# Altium footprint library PcbLib1.PcbLib: 42 footprints (part 3 of 3)
Each footprint in its own frame and in the unit in brackets; x right, y up, seen from the top. Pads: shape width x height; smd on the part's side, far side on the other; paste and mask are expansions set on the pad; w line width, h text height; cw(c..) or ccw(c..) is an arc to the next point about the centre after c.
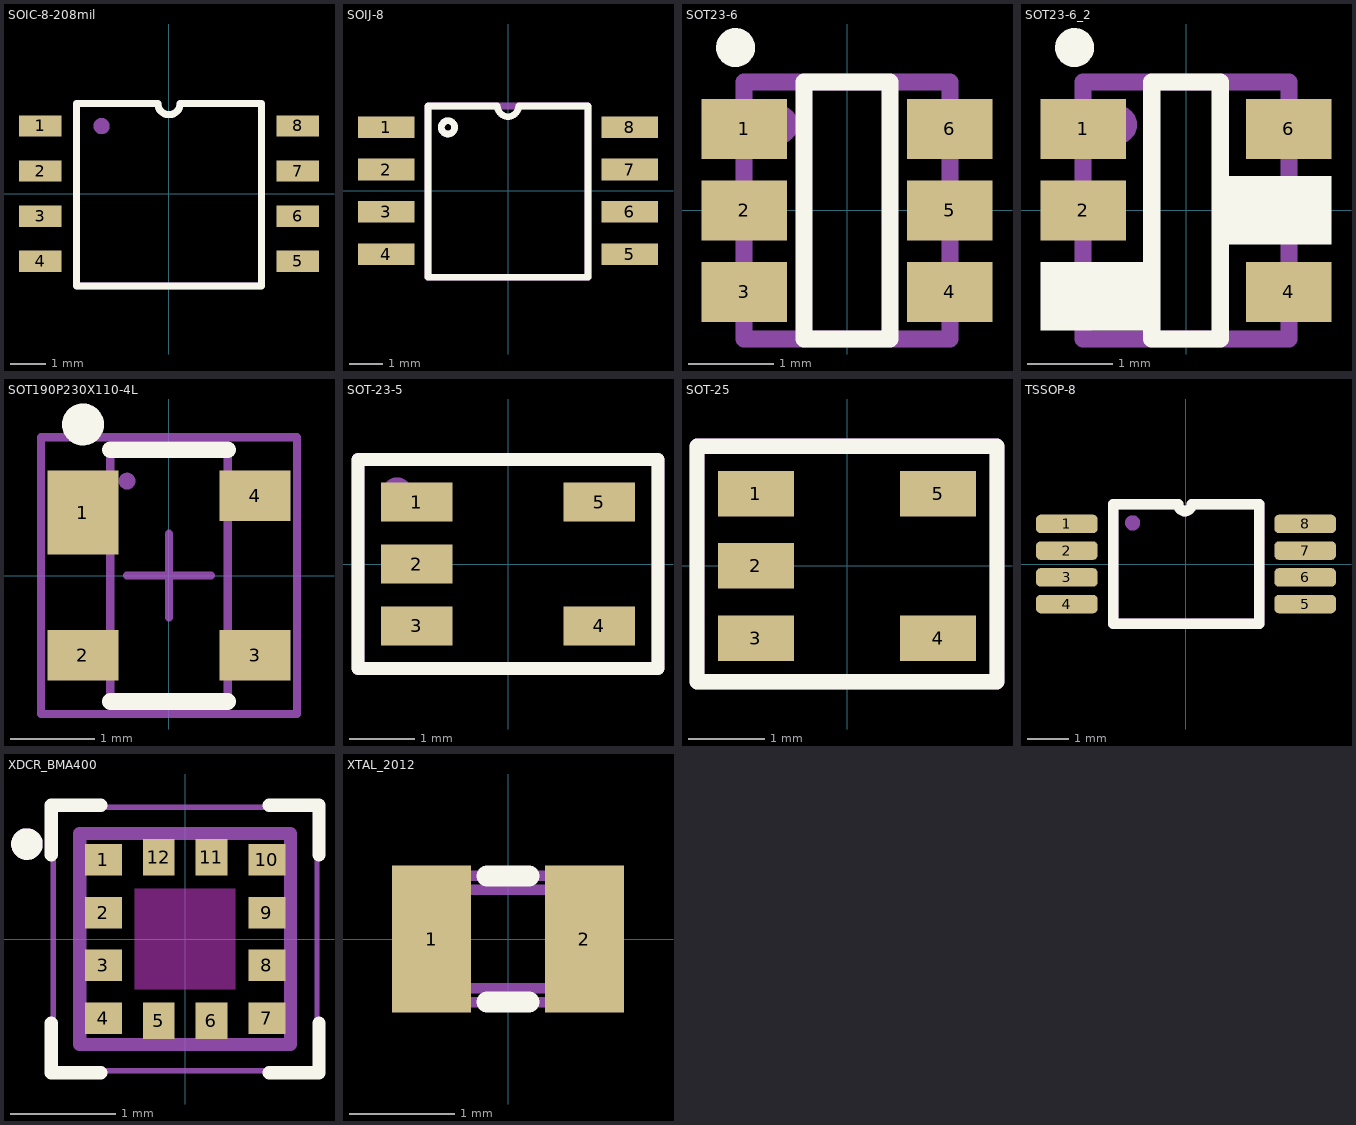
[diagram p2: the footprints below, top view; thin cyan lines are the x and y axes]

## SOIC-8-208mil [mm]
pads (8):
  rect 1.2x0.6 smd: 1(-3.625,1.905) 2(-3.625,0.635) 3(-3.625,-0.635) 4(-3.625,-1.905) 5(3.625,-1.905) 6(3.625,-0.635) 7(3.625,0.635) 8(3.625,1.905)
Top Overlay:
  lines w0.2: -2.6,-2.6 -2.6,2.54 -0.318,2.54 ccw(c0,2.54) 0.318,2.54 2.6,2.54 2.6,-2.6 -2.6,-2.6
Mechanical 29:
  circle w0.254: c-1.9,1.9 r0.1
  lines w0.2: -2.6,-2.6 -2.6,2.54 -0.318,2.54 ccw(c0,2.54) 0.318,2.54 2.6,2.54 2.6,-2.6 -2.6,-2.6
  text ".Designaror" at -0.9,-0.333 h0.8
3D body "MY SOIC 8.STEP": height 1.95, standoff 0, extent -3.912,-2.642 3.988,2.638

## SOIJ-8 [mm]
pads (8):
  rect 1.7x0.65 smd: 1(-3.65,1.905) 2(-3.65,0.635) 3(-3.65,-0.635) 4(-3.65,-1.905) 5(3.65,-1.905) 6(3.65,-0.635) 7(3.65,0.635) 8(3.65,1.905)
Top Overlay:
  circle w0.2: c-1.8,1.9 r0.2
  lines w0.2: -2.4,-2.6 -2.4,2.54 -0.318,2.54 ccw(c0,2.54) 0.318,2.54 2.4,2.54 2.4,-2.6 -2.4,-2.6
Mechanical 29:
  circle w0.2: c-1.8,1.9 r0.2
  lines w0.2: -2.4,-2.6 -0.3,-2.6 2.4,-2.6 2.4,2.54 -2.4,2.54 -2.4,-2.6
  text ".Designator" at -1.6,-0.934 h2
3D body "SOIJ-8_2.STEP": height 2.09, standoff 0.02, extent -3.945,-2.675 3.995,2.585

## SOT23-6 [mm]
pads (6):
  rect 1x0.7 smd mask+0.05: 1(-1.2,0.95) 2(-1.2,0) 3(-1.2,-0.95) 4(1.2,-0.95) 5(1.2,0) 6(1.2,0.95)
Top Overlay:
  lines w0.2: -0.5,-1.5 0.5,-1.5 0.5,1.5 -0.5,1.5 -0.5,-1.5
  lines w0.254: -1.203,1.876 cw(c-1.3,1.9) -1.2,1.9
Mechanical 29:
  circle w0.254: c-0.8,1 r0.1
  lines w0.2: -1.2,-1.5 -1.2,1.5 1.2,1.5 1.2,-1.5 -1.2,-1.5
  text ".Designator" at -0.8,-0.567 h1
3D body "SOT-23-6.step": height 1.09, standoff 0, extent -1.2,-1.397 1.226,1.397

## SOT23-6_2 [mm] "AP6972S"
pads (4):
  rect 1x0.7 smd mask+0.05: 1(-1.2,0.95) 2(-1.2,0) 4(1.2,-0.95) 6(1.2,0.95)
Top Overlay:
  rectangle: 0.4,-0.4 1.7,0.4
  rectangle: -1.7,-1.4 -0.4,-0.6
  lines w0.2: -0.4,-1.5 -0.4,1.5 0.4,1.5 0.4,-1.5 -0.4,-1.5
  lines w0.254: -1.203,1.876 cw(c-1.3,1.9) -1.2,1.9
Mechanical 29:
  circle w0.254: c-0.8,1 r0.1
  lines w0.2: -1.2,-1.5 1.2,-1.5 1.2,1.5 -1.2,1.5 -1.2,-1.5
  text ".Designator" at -0.8,-0.567 h1
3D body "SOT-23-6.step": height 1.09, standoff 0, extent -1.2,-1.397 1.226,1.397

## SOT190P230X110-4L [mm]
pads (4):
  rect 0.85x1 smd: 1(-1.025,0.75)
  rect 0.85x0.6 smd: 2(-1.025,-0.95) 3(1.025,-0.95) 4(1.025,0.95)
Top Overlay:
  circle w0.25: c-1.025,1.8 r0.125
  lines w0.2: -0.7,-1.5 0.7,-1.5 ; -0.7,1.5 0.7,1.5
Mechanical 29:
  circle w0.1: c-0.5,1.125 r0.05
  lines w0.1: -0.7,-1.5 0.7,-1.5 0.7,1.5 -0.7,1.5 -0.7,-1.5
  text ".Designator" at -0.152,0.178 h0.3
Mechanical 15:
  lines w0.1: -0.5,0 0.5,0 ; 0,-0.5 0,0.5 ; -1.525,-1.65 1.525,-1.65 1.525,1.65 -1.525,1.65 -1.525,-1.65
3D body "User Library-sot143.step": height 1, standoff 0, extent -1.21,-1.46 1.21,1.46

## SOT-23-5 [mm]
pads (5):
  rect 1.1x0.6 smd: 1(-1.4,0.95) 2(-1.4,0) 3(-1.4,-0.95) 4(1.4,-0.95) 5(1.4,0.95)
Top Overlay:
  lines w0.2: -2.3,-1.6 2.3,-1.6 2.3,1.6 -2.3,1.6 -2.3,-1.6
Mechanical 29:
  circle w0.254: c-1.7,1.1 r0.1
  lines w0.2: -2.3,-1.6 2.3,-1.6 2.3,1.6 -2.3,1.6 -2.3,-1.6
  text ".Designator" at -1.146,-0.513 h1
3D body "SOT-23-5.step": height 1.1, standoff 0, extent -1.225,-1.5 1.275,1.5

## SOT-25 [mm]
pads (5):
  rect 1x0.6 smd mask+0.08: 1(-1.2,0.95) 2(-1.2,0) 3(-1.2,-0.95) 4(1.2,-0.95) 5(1.2,0.95)
Top Overlay:
  lines w0.2: -0.088,1.575 1.975,1.575 1.975,-1.525 -1.975,-1.525 -1.975,1.575 0.088,1.575
Mechanical 29:
  circle w0.254: c-1.25,0.975 r0.09
  lines w0.2: -0.088,1.575 1.975,1.575 1.975,-1.525 -1.975,-1.525 -1.975,1.575 0.088,1.575
  text ".Designator" at -0.846,-0.538 h1
3D body "SOT-25.step": height 1.2, standoff 0, extent -1.35,-1.425 1.45,1.475

## TSSOP-8 [mm]
pads (8):
  rrect50% 1.5x0.45 smd mask+0.05: 1(-2.9,0.975) 2(-2.9,0.325) 3(-2.9,-0.325) 4(-2.9,-0.975) 5(2.9,-0.975) 6(2.9,-0.325) 7(2.9,0.325) 8(2.9,0.975)
Top Overlay:
  lines w0.254: 1.78,-1.45 1.315,-1.45 -1.775,-1.45 -1.775,1.45 -1.465,1.45 -1.34,1.45 -0.187,1.45 ccw(c-0.025,1.45) 0.138,1.45 1.29,1.45 1.78,1.45 ; 1.785,-1.446 1.785,1.454
Mechanical 29:
  circle w0.254: c-1.3,1 r0.056
  lines w0.254: 1.78,-1.45 1.315,-1.45 -1.775,-1.45 -1.775,1.45 -1.465,1.45 -1.34,1.45 -0.187,1.45 ccw(c-0.025,1.45) 0.138,1.45 1.29,1.45 1.78,1.45 ; 1.785,-1.446 1.785,1.454
  text ".Designator" at -0.846,-0.488 h1
3D body "PW8.step": height 1.2, standoff 0, extent -3.327,-1.549 3.277,1.549

## XDCR_BMA400 [mm]
pads (12):
  rect 0.35x0.3 smd paste-1 mask+0: 1(-0.775,0.75) 2(-0.775,0.25) 3(-0.775,-0.25) 4(-0.775,-0.75) 7(0.775,-0.75) 8(0.775,-0.25) 9(0.775,0.25) 10(0.775,0.75)
  rect 0.3x0.35 smd paste-1 mask+0: 5(-0.25,-0.775) 6(0.25,-0.775) 11(0.25,0.775) 12(-0.25,0.775)
Top Overlay:
  circle w0.15: c-1.5,0.9 r0.075
  lines w0.127: -1.27,-0.8 -1.27,-1.27 -0.8,-1.27 ; -1.27,0.8 -1.27,1.27 -0.8,1.27 ; 0.8,-1.27 1.27,-1.27 1.27,-0.8 ; 0.8,1.27 1.27,1.27 1.27,0.8
Top Paste:
  region: -0.625,-0.875 -0.925,-0.875 -0.925,-0.625 -0.625,-0.625
  region: -0.625,-0.375 -0.925,-0.375 -0.925,-0.125 -0.625,-0.125
  region: -0.625,0.125 -0.925,0.125 -0.925,0.375 -0.625,0.375
  region: -0.625,0.625 -0.925,0.625 -0.925,0.875 -0.625,0.875
  region: 0.925,0.625 0.625,0.625 0.625,0.875 0.925,0.875
  region: 0.925,0.125 0.625,0.125 0.625,0.375 0.925,0.375
  region: 0.925,-0.375 0.625,-0.375 0.625,-0.125 0.925,-0.125
  region: 0.925,-0.875 0.625,-0.875 0.625,-0.625 0.925,-0.625
  region: -0.125,-0.925 -0.375,-0.925 -0.375,-0.625 -0.125,-0.625
  region: 0.375,-0.925 0.125,-0.925 0.125,-0.625 0.375,-0.625
  region: -0.125,0.625 -0.375,0.625 -0.375,0.925 -0.125,0.925
  region: 0.375,0.625 0.125,0.625 0.125,0.925 0.375,0.925
Top Solder:
  region: -0.55,0.55 -1,0.55 -1,0.95 -0.55,0.95
  region: -0.55,0.05 -1,0.05 -1,0.45 -0.55,0.45
  region: -0.55,-0.45 -1,-0.45 -1,-0.05 -0.55,-0.05
  region: -0.55,-0.95 -1,-0.95 -1,-0.55 -0.55,-0.55
  region: 1,0.55 0.55,0.55 0.55,0.95 1,0.95
  region: 1,0.05 0.55,0.05 0.55,0.45 1,0.45
  region: 1,-0.45 0.55,-0.45 0.55,-0.05 1,-0.05
  region: 1,-0.95 0.55,-0.95 0.55,-0.55 1,-0.55
  region: -0.05,0.55 -0.45,0.55 -0.45,1 -0.05,1
  region: 0.45,0.55 0.05,0.55 0.05,1 0.45,1
  region: -0.05,-1 -0.45,-1 -0.45,-0.55 -0.05,-0.55
  region: 0.45,-1 0.05,-1 0.05,-0.55 0.45,-0.55
Keep-Out Layer:
  region: 0.475,-0.475 -0.475,-0.475 -0.475,0.475 0.475,0.475
  region: 0.475,-0.475 -0.475,-0.475 -0.475,0.475 0.475,0.475
Mechanical 29:
  circle w0.15: c-1.5,0.9 r0.075
  lines w0.127: -1,-1 1,-1 1,1 -1,1 -1,-1
  text ".Designator" at -0.689,-0.61 h1
Mechanical 15:
  lines w0.05: -1.25,-1.25 1.25,-1.25 1.25,1.25 -1.25,1.25 -1.25,-1.25
3D body "BMA400.STEP": height 1, standoff 0, extent -1,-1 1,1

## XTAL_2012 [mm]
pads (2):
  rect 0.75x1.4 smd: 1(-0.725,0) 2(0.725,0)
Top Overlay:
  lines w0.2: -0.2,-0.6 0.2,-0.6 ; -0.2,0.6 0.2,0.6
Mechanical 29:
  lines w0.1: -1,-0.5 cw(c-1,-0.6) -0.9,-0.6 0.9,-0.6 cw(c1,-0.6) 1,-0.5 1,0.5 cw(c1,0.6) 0.9,0.6 -0.9,0.6 cw(c-1,0.6) -1,0.5 -1,-0.5 ; -0.87,-0.37 ccw(c-0.77,-0.37) -0.77,-0.47 0.77,-0.47 ccw(c0.77,-0.37) 0.87,-0.37 0.87,0.37 ccw(c0.77,0.37) 0.77,0.47 -0.77,0.47 ccw(c-0.77,0.37) -0.87,0.37 -0.87,-0.37
  text ".Designator" at -0.254,-0.152 h0.3
3D body "User Library-ABS06.STEP": height 0.6, standoff 0, extent -1,-0.61 1,0.61
3D body: height 0.6, standoff 0.15, extent -0.825,-0.4 0.825,0.4